# Altium schematic symbol library CBC34523.Schlib: 1 symbol
Pins are listed as number, name and electrical type; pins without a type are passive.

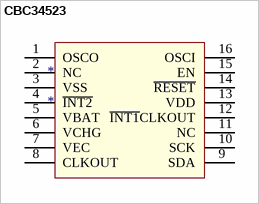
[diagram p0: symbol CBC34523]

## CBC34523
designator *
pins: 1 OSCO, 2 NC, 3 VSS, 4 ~{INT2}, 5 VBAT, 6 VCHG, 7 VEC, 8 CLKOUT, 9 SDA, 10 SCK, 11 NC, 12 ~{INT1}CLKOUT, 13 VDD, 14 ~{RESET}, 15 EN, 16 OSCI